# Altium schematic symbol library 7500 Antenna.Schlib: 1 symbol
Pins are listed as number, name and electrical type; pins without a type are passive.

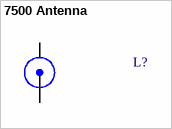
[diagram p0: symbol 7500 Antenna]

## 7500 Antenna
designator L?
pins: 1, 2